# EAGLE library part MAX98306ETD+T (library SnapEDA)
None
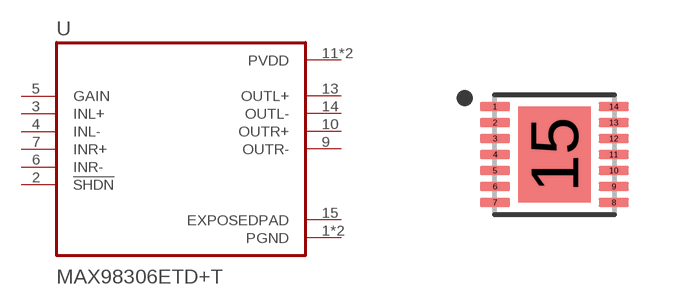
[diagram p16: symbol with the pads of SON40P300X300X75-14N; footprint SON40P300X300X75-14N]

Designator prefix U

## MAX98306ETD+T (AVAILABILITY: Good; DESCRIPTION: Audio Amp Speaker 2-CH Stereo 3.7W Class-D 14-Pin TDFN EP T/R; MF: Maxim Integrated; MP: MAX98306ETD+T; PACKAGE: TDFN-14 Maxim Integrated; PRICE: 0.78 USD)  [SON40P300X300X75-14N]
1  PGND  pwr
2  !SHDN  in
3  INL+  in
4  INL-  in
5  GAIN  in
6  INR-  in
7  INR+  in
8  PGND  pwr
9  OUTR-  out
10  OUTR+  out
11  PVDD  pwr
12  PVDD  pwr
13  OUTL+  out
14  OUTL-  out
15  EXPOSEDPAD  pwr

## Footprint SON40P300X300X75-14N (pad centres in mm)
smd 0.76 x 0.22: 1 -1.485,1.2; 2 -1.485,0.8; 3 -1.485,0.4; 4 -1.485,0; 5 -1.485,-0.4; 6 -1.485,-0.8; 7 -1.485,-1.2; 8 1.485,-1.2; 9 1.485,-0.8; 10 1.485,-0.4; 11 1.485,0; 12 1.485,0.4; 13 1.485,0.8; 14 1.485,1.2
smd 1.81 x 2.4: 15 0,0